# Altium integrated library Linear Technology Power Management Switching Regulator LTC1174-LTC3901.IntLib: 2647 symbols (part 130 of 364)
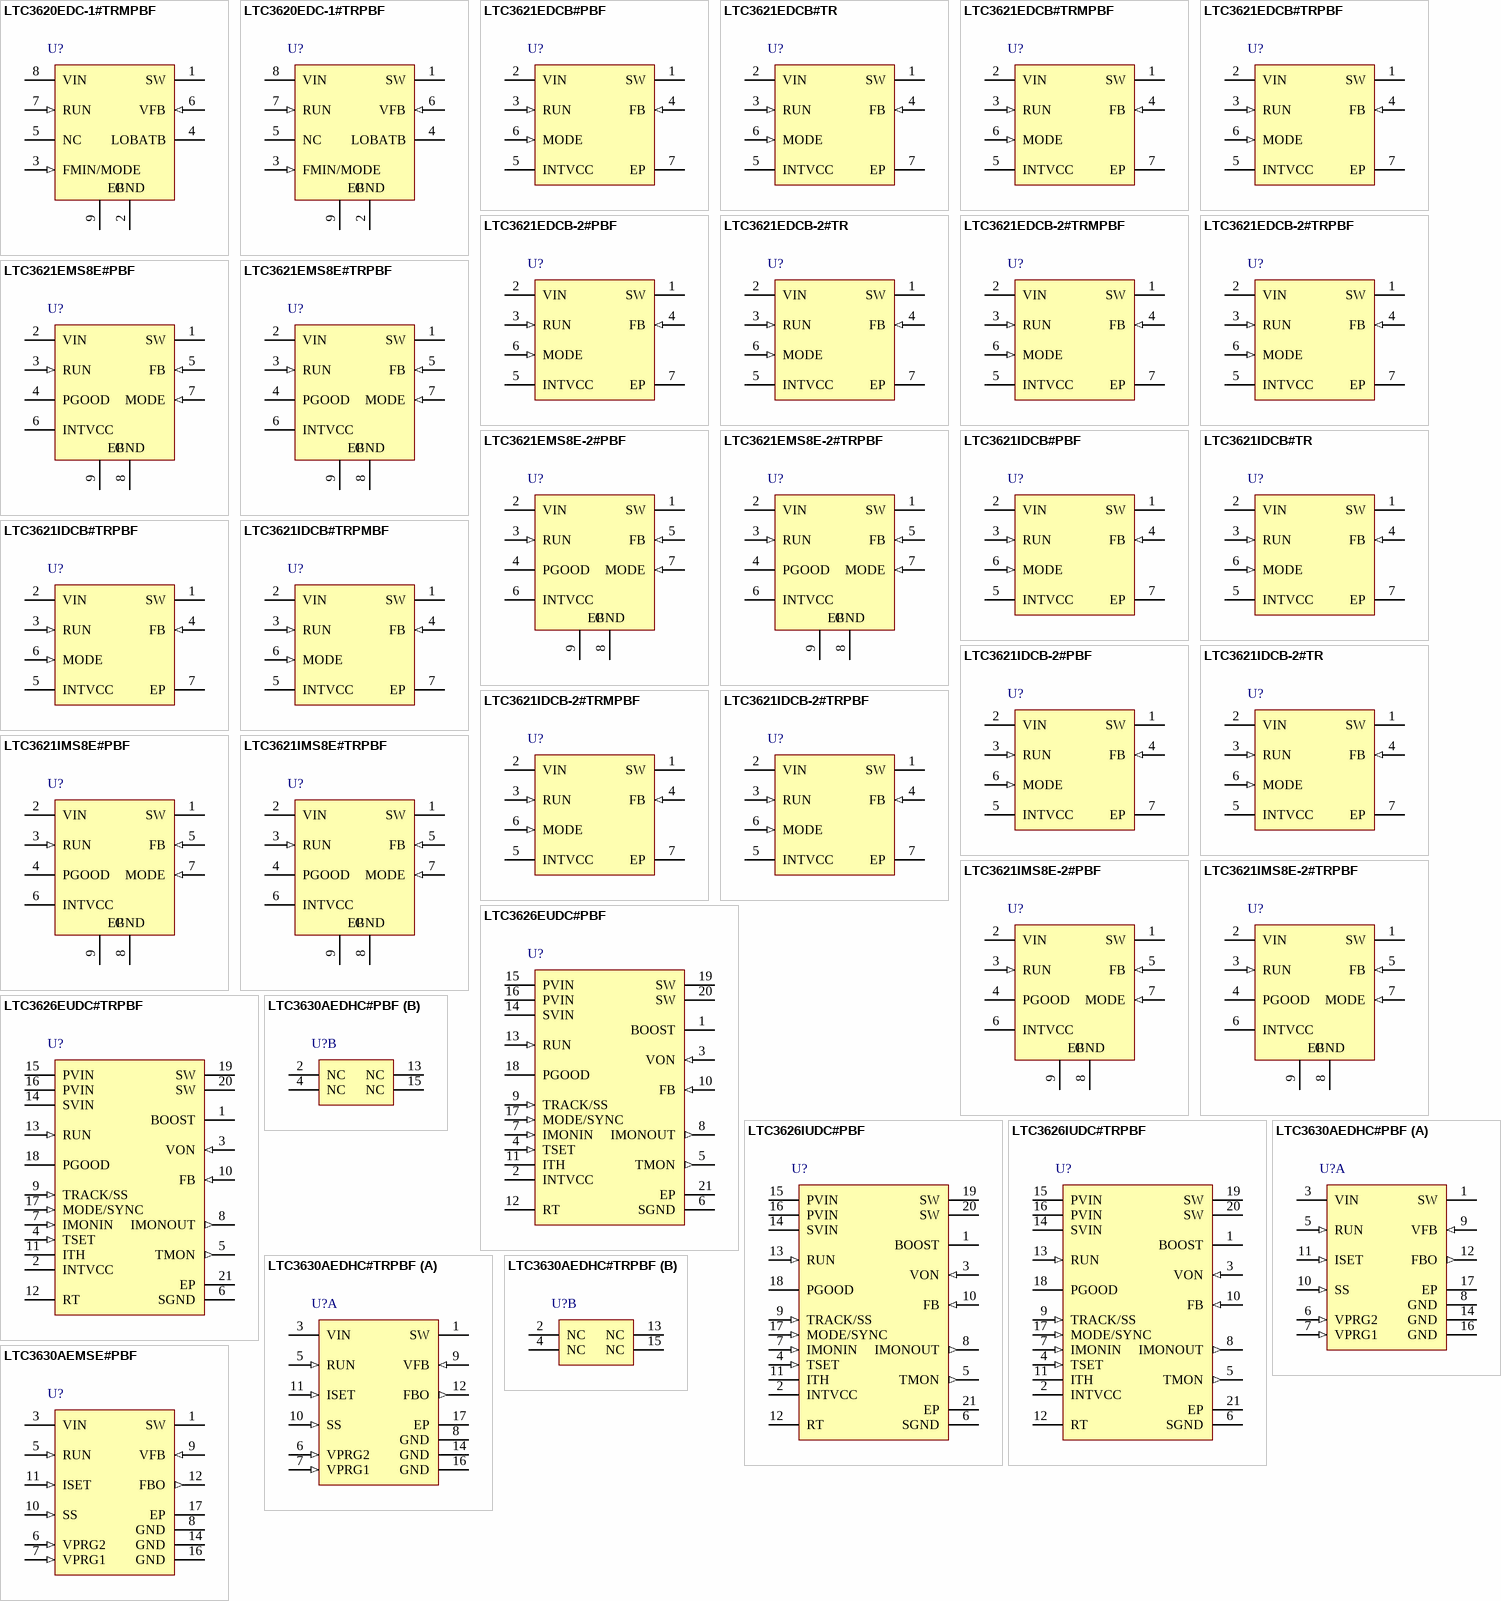
[diagram p281: symbols LTC3620EDC-1#TRMPBF to LTC3630AEMSE#PBF]

## LTC3621EDCB#TRMPBF
designator U?
1 A Synchronous Step-Down Regulator with 3.5 uA Quiescent Current, 6-pin SON (DCB-6), -40 to 125 degC, Pb-Free, Mini Tape and Reel; Manufacturer: Linear Technology; PartNumber: LTC3621EDCB#TRMPBF; Number of Outputs: 1; PackageVersion: Rev. A, 03/2011; PackageReference: DCB-6; PackageDescription: 6-Pin Plastic DFN, Body 2 x 3 mm, Pitch 0.5 mm; Supplier 1: Digi-Key; Supplier Part Number 1: LTC3621EDCB#TRMPBFTR-ND; Supplier 2: Digi-Key; Supplier Part Number 2: LTC3621EDCB#TRMPBFCT-ND; Supplier 3: Digi-Key; Supplier Part Number 3: LTC3621EDCB#TRMPBFDKR-ND; Supplier 4: Farnell; Supplier Part Number 4: 2322397; Supplier 5: Newark; Supplier Part Number 5: 87W6237; Supplier 6: Newark; Supplier Part Number 6: 72W1161; Packing: Mini Tape and Reel; RoHS: TRUE; Mounting Technology: Surface Mount; Code_JEDEC: MO-229; ComponentLink1Description: Manufacturer URL; ComponentLink1URL: http://www.linear.com/; ComponentLink2Description: Datasheet; ComponentLink2URL: http://cds.linear.com/docs/en/datasheet/3621f.pdf; ComponentLink3Description: Package Specification; ComponentLink3URL: http://www.linear.com/docs/en/packaging/(DCB6)%20DFN%2005-08-1715%20Rev%20A.pdf
footprint LT-DCB-6_V (SON, 6-Leads, Body 3x2mm, Pitch 0.5mm, Thermal Pad 1.65x1.35mm)
pins: 1 SW (power) "Switch Node Connection to the Inductor of the Step-Down Regulator.", 2 VIN (power) "Input Voltage of the Step-Down Regulator.", 3 RUN (in) "Logic Controlled RUN Input. Do not leave this pin floating. Logic high activates the step-down regulator.", 4 FB (in) "Feedback Input to the Error Amplifier of the Step-Down Regulator. Connect a resistor divider tap to this pin. The output voltage can be adjusted from 0.6V to VIN by: VOUT = 0.6V x [1 + (R1/R2)]", 5 INTVCC (power) "Low Dropout Regulator. Bypass with at least 1uF to Ground.", 6 MODE (in) "Burst Mode Select of the Step-Down Regulator. Tie MODE to INTVCC for Burst Mode operation with a 400mA peak current clamp, tie MODE to GND for pulse skipping operation, and tie MODE to a voltage between 1V and VINTVCC -1V (See Datasheet)", 7 EP (power) "Ground Backplane for Power and Signal Ground. Must be soldered to PCB ground."

## LTC3621EDCB#TRPBF
designator U?
1 A Synchronous Step-Down Regulator with 3.5 uA Quiescent Current, 6-pin SON (DCB-6), -40 to 125 degC, Pb-Free, Tape and Reel; Manufacturer: Linear Technology; PartNumber: LTC3621EDCB#TRPBF; Number of Outputs: 1; PackageVersion: Rev. A, 03/2011; PackageReference: DCB-6; PackageDescription: 6-Pin Plastic DFN, Body 2 x 3 mm, Pitch 0.5 mm; Supplier 1: Digi-Key; Supplier Part Number 1: LTC3621EDCB#TRPBF-ND; Supplier 2: Newark; Supplier Part Number 2: 87W6238; Supplier 3: Newark; Supplier Part Number 3: 72W1162; Packing: Tape and Reel; RoHS: TRUE; Mounting Technology: Surface Mount; Code_JEDEC: MO-229; ComponentLink1Description: Manufacturer URL; ComponentLink1URL: http://www.linear.com/; ComponentLink2Description: Datasheet; ComponentLink2URL: http://cds.linear.com/docs/en/datasheet/3621f.pdf; ComponentLink3Description: Package Specification; ComponentLink3URL: http://www.linear.com/docs/en/packaging/(DCB6)%20DFN%2005-08-1715%20Rev%20A.pdf
footprint LT-DCB-6_V (SON, 6-Leads, Body 3x2mm, Pitch 0.5mm, Thermal Pad 1.65x1.35mm)
pins: 1 SW (power) "Switch Node Connection to the Inductor of the Step-Down Regulator.", 2 VIN (power) "Input Voltage of the Step-Down Regulator.", 3 RUN (in) "Logic Controlled RUN Input. Do not leave this pin floating. Logic high activates the step-down regulator.", 4 FB (in) "Feedback Input to the Error Amplifier of the Step-Down Regulator. Connect a resistor divider tap to this pin. The output voltage can be adjusted from 0.6V to VIN by: VOUT = 0.6V x [1 + (R1/R2)]", 5 INTVCC (power) "Low Dropout Regulator. Bypass with at least 1uF to Ground.", 6 MODE (in) "Burst Mode Select of the Step-Down Regulator. Tie MODE to INTVCC for Burst Mode operation with a 400mA peak current clamp, tie MODE to GND for pulse skipping operation, and tie MODE to a voltage between 1V and VINTVCC -1V (See Datasheet)", 7 EP (power) "Ground Backplane for Power and Signal Ground. Must be soldered to PCB ground."

## LTC3621EDCB-2#PBF
designator U?
1 A Synchronous Step-Down Regulator with 3.5 uA Quiescent Current, 6-pin SON (DCB-6), -40 to 125 degC, Pb-Free; Manufacturer: Linear Technology; PartNumber: LTC3621EDCB-2#PBF; Number of Outputs: 1; PackageVersion: Rev. A, 03/2011; PackageReference: DCB-6; PackageDescription: 6-Pin Plastic DFN, Body 2 x 3 mm, Pitch 0.5 mm; RoHS: TRUE; Mounting Technology: Surface Mount; Code_JEDEC: MO-229; ComponentLink1Description: Manufacturer URL; ComponentLink1URL: http://www.linear.com/; ComponentLink2Description: Datasheet; ComponentLink2URL: http://cds.linear.com/docs/en/datasheet/3621f.pdf; ComponentLink3Description: Package Specification; ComponentLink3URL: http://www.linear.com/docs/en/packaging/(DCB6)%20DFN%2005-08-1715%20Rev%20A.pdf
footprint LT-DCB-6_V (SON, 6-Leads, Body 3x2mm, Pitch 0.5mm, Thermal Pad 1.65x1.35mm)
pins: 1 SW (power) "Switch Node Connection to the Inductor of the Step-Down Regulator.", 2 VIN (power) "Input Voltage of the Step-Down Regulator.", 3 RUN (in) "Logic Controlled RUN Input. Do not leave this pin floating. Logic high activates the step-down regulator.", 4 FB (in) "Feedback Input to the Error Amplifier of the Step-Down Regulator. Connect a resistor divider tap to this pin. The output voltage can be adjusted from 0.6V to VIN by: VOUT = 0.6V x [1 + (R1/R2)]", 5 INTVCC (power) "Low Dropout Regulator. Bypass with at least 1uF to Ground.", 6 MODE (in) "Burst Mode Select of the Step-Down Regulator. Tie MODE to INTVCC for Burst Mode operation with a 400mA peak current clamp, tie MODE to GND for pulse skipping operation, and tie MODE to a voltage between 1V and VINTVCC -1V (See Datasheet)", 7 EP (power) "Ground Backplane for Power and Signal Ground. Must be soldered to PCB ground."

## LTC3621EDCB-2#TR
designator U?
1 A Synchronous Step-Down Regulator with 3.5 uA Quiescent Current, 6-pin SON (DCB-6), -40 to 125 degC, Tape and Reel; Manufacturer: Linear Technology; PartNumber: LTC3621EDCB-2#TR; Number of Outputs: 1; PackageVersion: Rev. A, 03/2011; PackageReference: DCB-6; PackageDescription: 6-Pin Plastic DFN, Body 2 x 3 mm, Pitch 0.5 mm; Packing: Tape and Reel; RoHS: FALSE; Mounting Technology: Surface Mount; Code_JEDEC: MO-229; ComponentLink1Description: Manufacturer URL; ComponentLink1URL: http://www.linear.com/; ComponentLink2Description: Datasheet; ComponentLink2URL: http://cds.linear.com/docs/en/datasheet/3621f.pdf; ComponentLink3Description: Package Specification; ComponentLink3URL: http://www.linear.com/docs/en/packaging/(DCB6)%20DFN%2005-08-1715%20Rev%20A.pdf
footprint LT-DCB-6_V (SON, 6-Leads, Body 3x2mm, Pitch 0.5mm, Thermal Pad 1.65x1.35mm)
pins: 1 SW (power) "Switch Node Connection to the Inductor of the Step-Down Regulator.", 2 VIN (power) "Input Voltage of the Step-Down Regulator.", 3 RUN (in) "Logic Controlled RUN Input. Do not leave this pin floating. Logic high activates the step-down regulator.", 4 FB (in) "Feedback Input to the Error Amplifier of the Step-Down Regulator. Connect a resistor divider tap to this pin. The output voltage can be adjusted from 0.6V to VIN by: VOUT = 0.6V x [1 + (R1/R2)]", 5 INTVCC (power) "Low Dropout Regulator. Bypass with at least 1uF to Ground.", 6 MODE (in) "Burst Mode Select of the Step-Down Regulator. Tie MODE to INTVCC for Burst Mode operation with a 400mA peak current clamp, tie MODE to GND for pulse skipping operation, and tie MODE to a voltage between 1V and VINTVCC -1V (See Datasheet)", 7 EP (power) "Ground Backplane for Power and Signal Ground. Must be soldered to PCB ground."

## LTC3621EDCB-2#TRMPBF
designator U?
1 A Synchronous Step-Down Regulator with 3.5 uA Quiescent Current, 6-pin SON (DCB-6), -40 to 125 degC, Pb-Free, Mini Tape and Reel; Manufacturer: Linear Technology; PartNumber: LTC3621EDCB-2#TRMPBF; Number of Outputs: 1; PackageVersion: Rev. A, 03/2011; PackageReference: DCB-6; PackageDescription: 6-Pin Plastic DFN, Body 2 x 3 mm, Pitch 0.5 mm; Supplier 1: Digi-Key; Supplier Part Number 1: LTC3621EDCB-2#TRMPBFTR-ND; Supplier 2: Digi-Key; Supplier Part Number 2: LTC3621EDCB-2#TRMPBFCT-ND; Supplier 3: Digi-Key; Supplier Part Number 3: LTC3621EDCB-2#TRMPBFDKR-ND; Supplier 4: Farnell; Supplier Part Number 4: 2322398; Supplier 5: Newark; Supplier Part Number 5: 87W6235; Supplier 6: Newark; Supplier Part Number 6: 72W1159; Packing: Mini Tape and Reel; RoHS: TRUE; Mounting Technology: Surface Mount; Code_JEDEC: MO-229; ComponentLink1Description: Manufacturer URL; ComponentLink1URL: http://www.linear.com/; ComponentLink2Description: Datasheet; ComponentLink2URL: http://cds.linear.com/docs/en/datasheet/3621f.pdf; ComponentLink3Description: Package Specification; ComponentLink3URL: http://www.linear.com/docs/en/packaging/(DCB6)%20DFN%2005-08-1715%20Rev%20A.pdf
footprint LT-DCB-6_V (SON, 6-Leads, Body 3x2mm, Pitch 0.5mm, Thermal Pad 1.65x1.35mm)
pins: 1 SW (power) "Switch Node Connection to the Inductor of the Step-Down Regulator.", 2 VIN (power) "Input Voltage of the Step-Down Regulator.", 3 RUN (in) "Logic Controlled RUN Input. Do not leave this pin floating. Logic high activates the step-down regulator.", 4 FB (in) "Feedback Input to the Error Amplifier of the Step-Down Regulator. Connect a resistor divider tap to this pin. The output voltage can be adjusted from 0.6V to VIN by: VOUT = 0.6V x [1 + (R1/R2)]", 5 INTVCC (power) "Low Dropout Regulator. Bypass with at least 1uF to Ground.", 6 MODE (in) "Burst Mode Select of the Step-Down Regulator. Tie MODE to INTVCC for Burst Mode operation with a 400mA peak current clamp, tie MODE to GND for pulse skipping operation, and tie MODE to a voltage between 1V and VINTVCC -1V (See Datasheet)", 7 EP (power) "Ground Backplane for Power and Signal Ground. Must be soldered to PCB ground."

## LTC3621EDCB-2#TRPBF
designator U?
1 A Synchronous Step-Down Regulator with 3.5 uA Quiescent Current, 6-pin SON (DCB-6), -40 to 125 degC, Pb-Free, Tape and Reel; Manufacturer: Linear Technology; PartNumber: LTC3621EDCB-2#TRPBF; Number of Outputs: 1; PackageVersion: Rev. A, 03/2011; PackageReference: DCB-6; PackageDescription: 6-Pin Plastic DFN, Body 2 x 3 mm, Pitch 0.5 mm; Supplier 1: Digi-Key; Supplier Part Number 1: LTC3621EDCB-2#TRPBF-ND; Supplier 2: Newark; Supplier Part Number 2: 87W6236; Supplier 3: Newark; Supplier Part Number 3: 72W1160; Packing: Tape and Reel; RoHS: TRUE; Mounting Technology: Surface Mount; Code_JEDEC: MO-229; ComponentLink1Description: Manufacturer URL; ComponentLink1URL: http://www.linear.com/; ComponentLink2Description: Datasheet; ComponentLink2URL: http://cds.linear.com/docs/en/datasheet/3621f.pdf; ComponentLink3Description: Package Specification; ComponentLink3URL: http://www.linear.com/docs/en/packaging/(DCB6)%20DFN%2005-08-1715%20Rev%20A.pdf
footprint LT-DCB-6_V (SON, 6-Leads, Body 3x2mm, Pitch 0.5mm, Thermal Pad 1.65x1.35mm)
pins: 1 SW (power) "Switch Node Connection to the Inductor of the Step-Down Regulator.", 2 VIN (power) "Input Voltage of the Step-Down Regulator.", 3 RUN (in) "Logic Controlled RUN Input. Do not leave this pin floating. Logic high activates the step-down regulator.", 4 FB (in) "Feedback Input to the Error Amplifier of the Step-Down Regulator. Connect a resistor divider tap to this pin. The output voltage can be adjusted from 0.6V to VIN by: VOUT = 0.6V x [1 + (R1/R2)]", 5 INTVCC (power) "Low Dropout Regulator. Bypass with at least 1uF to Ground.", 6 MODE (in) "Burst Mode Select of the Step-Down Regulator. Tie MODE to INTVCC for Burst Mode operation with a 400mA peak current clamp, tie MODE to GND for pulse skipping operation, and tie MODE to a voltage between 1V and VINTVCC -1V (See Datasheet)", 7 EP (power) "Ground Backplane for Power and Signal Ground. Must be soldered to PCB ground."

## LTC3621EMS8E#PBF
designator U?
1 A Synchronous Step-Down Regulator with 3.5 uA Quiescent Current, 8-pin SOP (MS8E-8), -40 to 125 degC, Pb-Free; Manufacturer: Linear Technology; PartNumber: LTC3621EMS8E#PBF; Number of Outputs: 1; PackageVersion: Rev. F; PackageReference: MS8E-8; PackageDescription: 8-Pin Plastic MSOP, Exposed Die Pad, Body 3 x 3 mm, Pitch 0.65 mm; Supplier 1: Digi-Key; Supplier Part Number 1: LTC3621EMS8E#PBF-ND; Supplier 2: Newark; Supplier Part Number 2: 72W1165; RoHS: TRUE; Mounting Technology: Surface Mount; ComponentLink1Description: Manufacturer URL; ComponentLink1URL: http://www.linear.com/; ComponentLink2Description: Datasheet; ComponentLink2URL: http://cds.linear.com/docs/en/datasheet/3621f.pdf; ComponentLink3Description: Package Specification; ComponentLink3URL: http://cds.linear.com/docs/en/datasheet/3080fc.pdf
footprint LT-MS8E-8-1880X1680TP_N (SOP, 8-Leads, Body 3.1x3.1mm, Pitch 0.65mm, Thermal Pad 1.88x1.68mm, IPC Medium Density)
footprint LT-MS8E-8-1880X1680TP_L (SOP, 8-Leads, Body 3.1x3.1mm, Pitch 0.65mm, Thermal Pad 1.88x1.68mm, IPC High Density)
footprint LT-MS8E-8-1880X1680TP_M (SOP, 8-Leads, Body 3.1x3.1mm, Pitch 0.65mm, Thermal Pad 1.88x1.68mm, IPC Low Density)
pins: 1 SW (power) "Switch Node Connection to the Inductor of the Step-Down Regulator.", 2 VIN (power) "Input Voltage of the Step-Down Regulator", 3 RUN (in) "Logic Controlled RUN Input. Do not leave this pin floating. Logic high activates the step-down regulator.", 4 PGOOD (oc) "VOUT within Regulation Indicator.", 5 FB (in) "Feedback Input to the Error Amplifier of the Step-Down Regulator. Connect a resistor divider tap to this pin.", 6 INTVCC (power) "Low Dropout Regulator. Bypass with at least 1uF to Ground.", 7 MODE (in) "Burst Mode Select of the Step-Down Regulator. Tie MODE to INTVCC for Burst Mode operation with a 400mA peak current clamp, tie MODE to GND for pulse skipping operation, and tie MODE to a voltage between 1V and VINTVCC - 1V (See Datasheet)", 8 SGND (power) "Signal Ground.", 9 EP (power) "Ground Backplane for Power and Signal Ground. Must be soldered to PCB ground."
text: GND

## LTC3621EMS8E#TRPBF
designator U?
1 A Synchronous Step-Down Regulator with 3.5 uA Quiescent Current, 8-pin SOP (MS8E-8), -40 to 125 degC, Pb-Free, Tape and Reel; Manufacturer: Linear Technology; PartNumber: LTC3621EMS8E#TRPBF; Number of Outputs: 1; PackageVersion: Rev. F; PackageReference: MS8E-8; PackageDescription: 8-Pin Plastic MSOP, Exposed Die Pad, Body 3 x 3 mm, Pitch 0.65 mm; Supplier 1: Digi-Key; Supplier Part Number 1: LTC3621EMS8E#TRPBF-ND; Supplier 2: Newark; Supplier Part Number 2: 72W1166; Packing: Tape and Reel; RoHS: TRUE; Mounting Technology: Surface Mount; ComponentLink1Description: Manufacturer URL; ComponentLink1URL: http://www.linear.com/; ComponentLink2Description: Datasheet; ComponentLink2URL: http://cds.linear.com/docs/en/datasheet/3621f.pdf; ComponentLink3Description: Package Specification; ComponentLink3URL: http://cds.linear.com/docs/en/datasheet/3080fc.pdf
footprint LT-MS8E-8-1880X1680TP_N (SOP, 8-Leads, Body 3.1x3.1mm, Pitch 0.65mm, Thermal Pad 1.88x1.68mm, IPC Medium Density)
footprint LT-MS8E-8-1880X1680TP_L (SOP, 8-Leads, Body 3.1x3.1mm, Pitch 0.65mm, Thermal Pad 1.88x1.68mm, IPC High Density)
footprint LT-MS8E-8-1880X1680TP_M (SOP, 8-Leads, Body 3.1x3.1mm, Pitch 0.65mm, Thermal Pad 1.88x1.68mm, IPC Low Density)
pins: 1 SW (power) "Switch Node Connection to the Inductor of the Step-Down Regulator.", 2 VIN (power) "Input Voltage of the Step-Down Regulator", 3 RUN (in) "Logic Controlled RUN Input. Do not leave this pin floating. Logic high activates the step-down regulator.", 4 PGOOD (oc) "VOUT within Regulation Indicator.", 5 FB (in) "Feedback Input to the Error Amplifier of the Step-Down Regulator. Connect a resistor divider tap to this pin.", 6 INTVCC (power) "Low Dropout Regulator. Bypass with at least 1uF to Ground.", 7 MODE (in) "Burst Mode Select of the Step-Down Regulator. Tie MODE to INTVCC for Burst Mode operation with a 400mA peak current clamp, tie MODE to GND for pulse skipping operation, and tie MODE to a voltage between 1V and VINTVCC - 1V (See Datasheet)", 8 SGND (power) "Signal Ground.", 9 EP (power) "Ground Backplane for Power and Signal Ground. Must be soldered to PCB ground."
text: GND